# EAGLE library part 613015143121 (library Board-to-Board (rev18a))
WR-PHD 2.54mm Angeld Socket Header, 15 Pins=>Code : Con_BTB_SHD_2.54_1_THT_613015143121 <http://katalog.we-online.de/media/images/eican/Con_BTB_SHD_2.54_1_THT_6130xx143121_pf2.jpg> Details see: http://katalog.we-online.de/en/em/613_0xx_143_121 Created 2014-05-29, Karrer Zheng 2014 (C) Würth Elektronik
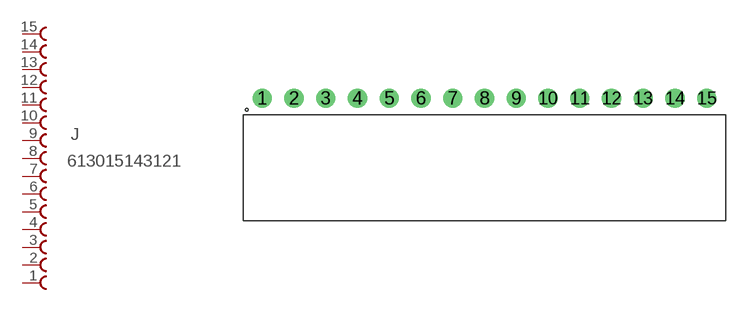
[diagram p135: symbol with the pads of 613015143121; footprint 613015143121]

Designator prefix J

## 613015143121  [613015143121]
1  15  pas
2  14  pas
3  13  pas
4  12  pas
5  11  pas
6  10  pas
7  9  pas
8  8  pas
9  7  pas
10  6  pas
11  5  pas
12  4  pas
13  3  pas
14  2  pas
15  1  pas

## Footprint 613015143121 (pad centres in mm)
WR-PHD 2.54mm Angled Socket Header, 15 Pins
drill 1.02: 1 -17.78,0; 2 -15.24,0; 3 -12.7,0; 4 -10.16,0; 5 -7.62,0; 6 -5.08,0; 7 -2.54,0; 8 0,0; 9 2.54,0; 10 5.08,0; 11 7.62,0; 12 10.16,0; 13 12.7,0; 14 15.24,0; 15 17.78,0